# Altium footprint library ANT_SIM_LIB.PcbLib: 15 footprints
Each footprint in its own frame and in the unit in brackets; x right, y up, seen from the top. Pads: shape width x height; smd on the part's side, far side on the other; paste and mask are expansions set on the pad; w line width, h text height; cw(c..) or ccw(c..) is an arc to the next point about the centre after c.
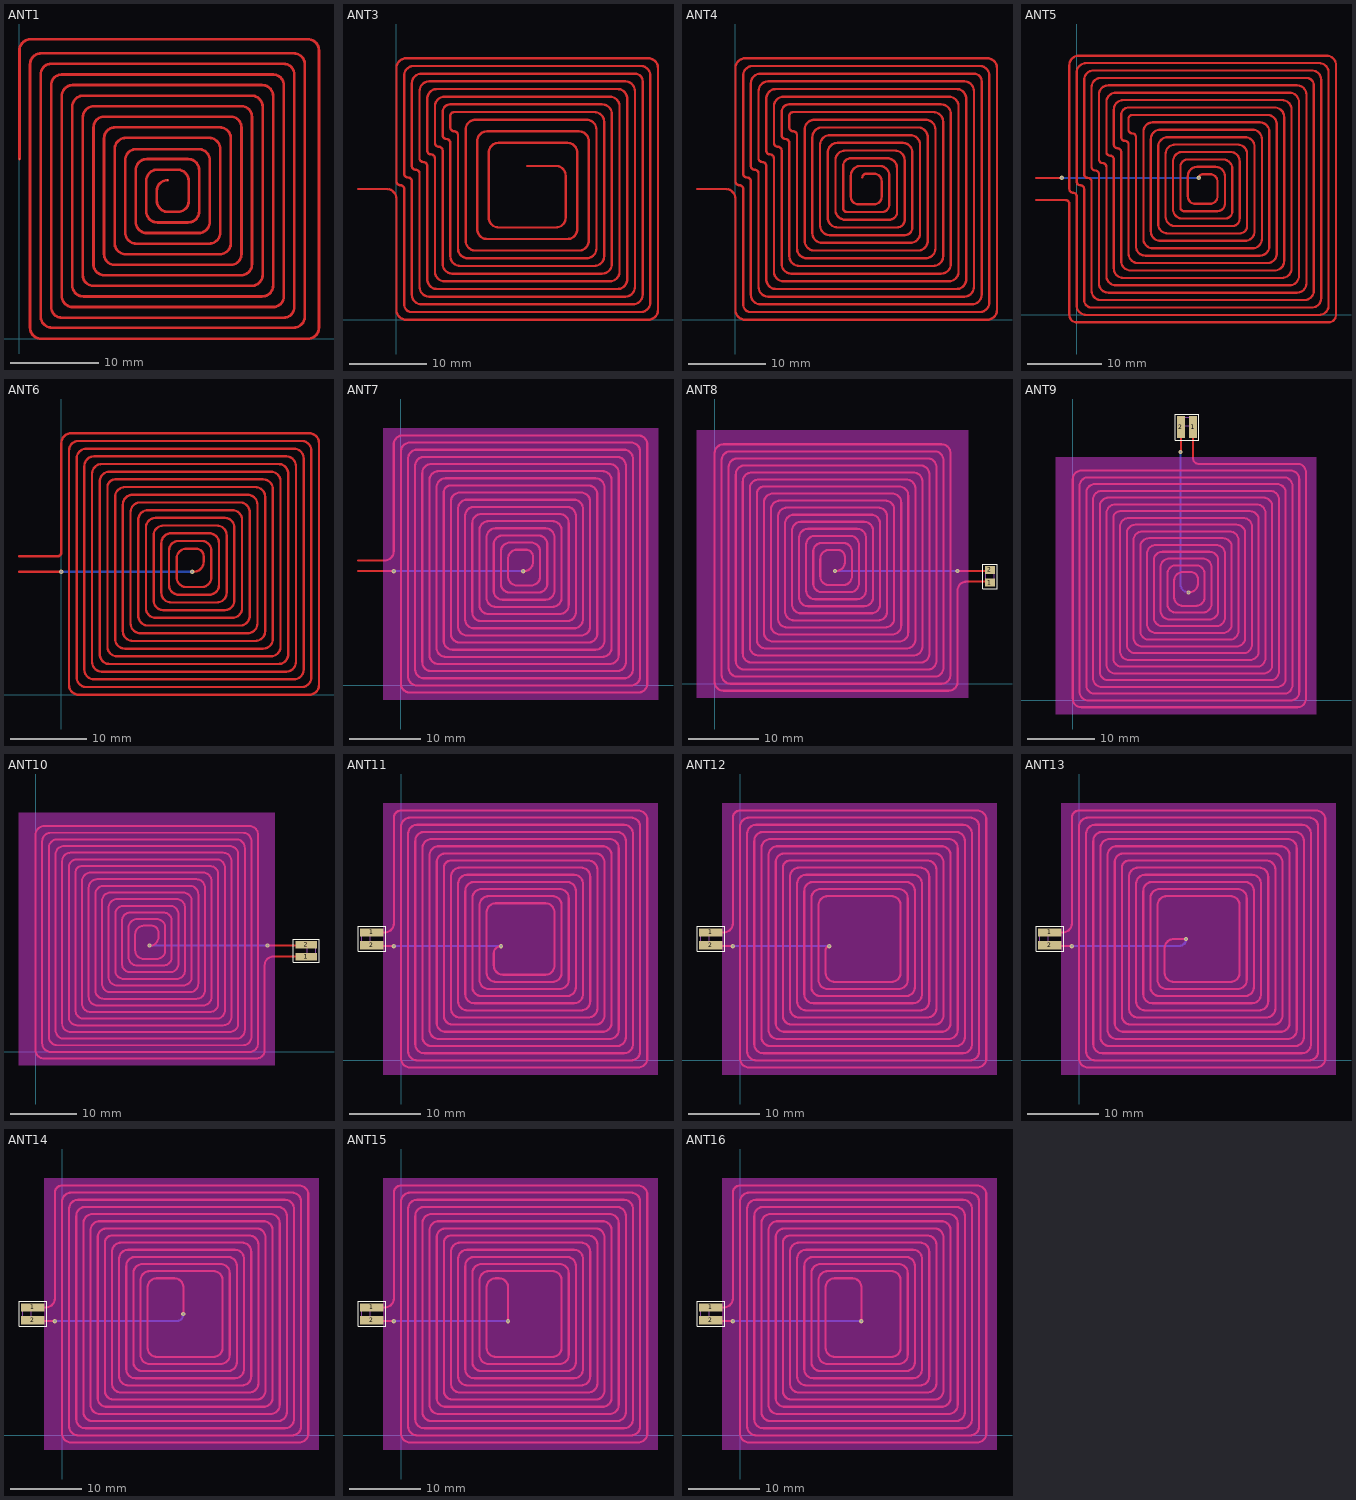
[diagram p0: the footprints below, top view; thin cyan lines are the x and y axes]

## ANT1 [mm] "13.56 MHz, 28.5pF, no external capacitor 34mm x 34mm, 12 turns, 0.3 trace width, 0.6 spacing"
pads (2):
  rect 0.1x0.1 smd mask+0: 1(16.8,18) 2(0,20.4)
Top Layer:
  lines w0.3: 0,20.4 0,32.73 cw(c1.27,32.73) 1.27,34 32.73,34 cw(c32.73,32.73) 34,32.73 34,1.27 cw(c32.73,1.27) 32.73,0 2.47,0 cw(c2.47,1.27) 1.2,1.27 1.2,31.13 cw(c2.47,31.13) 2.47,32.4 31.13,32.4 cw(c31.13,31.13) 32.4,31.13 32.4,2.54 cw(c31.13,2.54) 31.13,1.27 3.67,1.27 cw(c3.67,2.54) 2.4,2.54 2.4,30 cw(c3.6,30) 3.6,31.2 30,31.2 cw(c30,30) 31.2,30 31.2,3.6 cw(c30,3.6) 30,2.4 4.8,2.4 cw(c4.8,3.6) 3.6,3.6 3.6,28.8 cw(c4.8,28.8) 4.8,30 28.8,30 cw(c28.8,28.8) 30,28.8 30,4.8 cw(c28.8,4.8) 28.8,3.6 6.07,3.6 cw(c6.07,4.87) 4.8,4.87 4.8,27.53 cw(c6.07,27.53) 6.07,28.8 27.53,28.8 cw(c27.53,27.53) 28.8,27.53 28.8,6.07 cw(c27.53,6.07) 27.53,4.8 7.27,4.8 cw(c7.27,6.07) 6,6.07 6,26.33 cw(c7.27,26.33) 7.27,27.6 26.33,27.6 cw(c26.33,26.33) 27.6,26.33 27.6,7.27 cw(c26.33,7.27) 26.33,6 8.4,6 cw(c8.4,7.2) 7.2,7.2 7.2,25.13 cw(c8.47,25.13) 8.47,26.4 25.2,26.4 cw(c25.2,25.2) 26.4,25.2 26.4,8.47 cw(c25.13,8.47) 25.13,7.2 9.67,7.2 cw(c9.67,8.47) 8.4,8.47 8.4,24 cw(c9.6,24) 9.6,25.2 24,25.2 cw(c24,24) 25.2,24 25.2,9.6 cw(c24,9.6) 24,8.4 10.8,8.4 cw(c10.8,9.6) 9.6,9.6 9.6,22.73 cw(c10.87,22.73) 10.87,24 22.73,24 cw(c22.73,22.73) 24,22.73 24,10.87 cw(c22.73,10.87) 22.73,9.6 12.07,9.6 cw(c12.07,10.87) 10.8,10.87 10.8,21.53 cw(c12.07,21.53) 12.07,22.8 21.53,22.8 cw(c21.53,21.53) 22.8,21.53 22.8,12.07 cw(c21.53,12.07) 21.53,10.8 13.27,10.8 cw(c13.27,12.07) 12,12.07 12,20.26 cw(c13.27,20.26) 13.27,21.53 20.33,21.53 cw(c20.33,20.26) 21.6,20.26 21.6,13.27 cw(c20.33,13.27) 20.33,12 14.47,12 cw(c14.47,13.27) 13.2,13.27 13.2,19.13 cw(c14.47,19.13) 14.47,20.4 19.13,20.4 cw(c19.13,19.13) 20.4,19.13 20.4,14.47 cw(c19.13,14.47) 19.13,13.2 15.67,13.2 cw(c15.67,14.47) 14.4,14.47 14.4,17.93 cw(c15.67,17.93) 15.67,19.2 17.93,19.2 cw(c17.93,17.93) 19.2,17.93 19.2,15.6 cw(c18,15.6) 18,14.4 16.87,14.4 cw(c16.87,15.67) 15.6,15.67 15.6,16.8 cw(c16.8,16.8) 16.8,18

## ANT3 [mm] "13.56 MHz, 28.5pF, with external capacitor 34mm x 34mm, 12 turns, 0.3 trace width, 0.6 spacing"
Top Layer:
  lines w0.3: -5,17 -1.27,17 cw(c-1.27,15.73) 0,15.73 0,1.27 ccw(c1.27,1.27) 1.27,0 32.73,0 ccw(c32.73,1.27) 34,1.27 34,32.73 ccw(c32.73,32.73) 32.73,34 1.27,34 ccw(c1.27,32.73) 0,32.73 0,18 ccw(c0.5,18) 0.5,17.5 cw(c0.5,17) 1,17 1,2 ccw(c2,2) 2,1 31.73,1 ccw(c31.73,2.27) 33,2.27 33,31.73 ccw(c31.73,31.73) 31.73,33 2.27,33 ccw(c2.27,31.73) 1,31.73 1,19 ccw(c1.5,19) 1.5,18.5 cw(c1.5,18) 2,18 2,3.27 ccw(c3.27,3.27) 3.27,2 30.73,2 ccw(c30.73,3.27) 32,3.27 32,31 ccw(c31,31) 31,32 3.27,32 ccw(c3.27,30.73) 2,30.73 2,20 ccw(c2.5,20) 2.5,19.5 cw(c2.5,19) 3,19 3,4.27 ccw(c4.27,4.27) 4.27,3 29.73,3 ccw(c29.73,4.27) 31,4.27 31,29.73 ccw(c29.73,29.73) 29.73,31 4.27,31 ccw(c4.27,29.73) 3,29.73 3,21 ccw(c3.5,21) 3.5,20.5 cw(c3.5,20) 4,20 4,5.27 ccw(c5.27,5.27) 5.27,4 28.73,4 ccw(c28.73,5.27) 30,5.27 30,28.73 ccw(c28.73,28.73) 28.73,30 5.27,30 ccw(c5.27,28.73) 4,28.73 4,22 ccw(c4.5,22) 4.5,21.5 ; 17,20 20.73,20 cw(c20.73,18.73) 22,18.73 22,13.27 cw(c20.73,13.27) 20.73,12 13.27,12 cw(c13.27,13.27) 12,13.27 12,21.73 cw(c13.27,21.73) 13.27,23 22.23,23 cw(c22.23,21.73) 23.5,21.73 23.5,11.77 cw(c22.23,11.77) 22.23,10.5 11.77,10.5 cw(c11.77,11.77) 10.5,11.77 10.5,23.23 cw(c11.77,23.23) 11.77,24.5 23.73,24.5 cw(c23.73,23.23) 25,23.23 25,10.27 cw(c23.73,10.27) 23.73,9 10.27,9 cw(c10.27,10.27) 9,10.27 9,24.73 cw(c10.27,24.73) 10.27,26 24.73,26 cw(c24.73,24.73) 26,24.73 26,9.27 cw(c24.73,9.27) 24.73,8 9.27,8 cw(c9.27,9.27) 8,9.27 8,24 ccw(c7.5,24) 7.5,24.5 cw(c7.5,25) 7,25 7,25.5 7,26.5 cw(c7.5,26.5) 7.5,27 25.73,27 cw(c25.73,25.73) 27,25.73 27,8.27 cw(c25.73,8.27) 25.73,7 8.27,7 cw(c8.27,8.27) 7,8.27 7,23 ccw(c6.5,23) 6.5,23.5 cw(c6.5,24) 6,24 6,27 cw(c7,27) 7,28 26.73,28 cw(c26.73,26.73) 28,26.73 28,7.27 cw(c26.73,7.27) 26.73,6 7.27,6 cw(c7.27,7.27) 6,7.27 6,21.5 6,22 ccw(c5.5,22) 5.5,22.5 cw(c5.5,23) 5,23 5,27.73 cw(c6.27,27.73) 6.27,29 27.73,29 cw(c27.73,27.73) 29,27.73 29,6.27 cw(c27.73,6.27) 27.73,5 6.27,5 cw(c6.27,6.27) 5,6.27 5,21 ccw(c4.5,21) 4.5,21.5 ; 4.5,21.5 4.5,21.5

## ANT4 [mm] "13.56 MHz, 28.5pF, with external capacitor 34mm x 34mm, 12 turns, 0.3 trace width, 0.6 spacing"
Top Layer:
  lines w0.3: -5,17 -1.27,17 cw(c-1.27,15.73) 0,15.73 0,1.27 ccw(c1.27,1.27) 1.27,0 32.73,0 ccw(c32.73,1.27) 34,1.27 34,32.73 ccw(c32.73,32.73) 32.73,34 1.27,34 ccw(c1.27,32.73) 0,32.73 0,18 ccw(c0.5,18) 0.5,17.5 cw(c0.5,17) 1,17 1,2 ccw(c2,2) 2,1 31.73,1 ccw(c31.73,2.27) 33,2.27 33,31.73 ccw(c31.73,31.73) 31.73,33 2.27,33 ccw(c2.27,31.73) 1,31.73 1,19 ccw(c1.5,19) 1.5,18.5 cw(c1.5,18) 2,18 2,3.27 ccw(c3.27,3.27) 3.27,2 30.73,2 ccw(c30.73,3.27) 32,3.27 32,31 ccw(c31,31) 31,32 3.27,32 ccw(c3.27,30.73) 2,30.73 2,20 ccw(c2.5,20) 2.5,19.5 cw(c2.5,19) 3,19 3,4.27 ccw(c4.27,4.27) 4.27,3 29.73,3 ccw(c29.73,4.27) 31,4.27 31,29.73 ccw(c29.73,29.73) 29.73,31 4.27,31 ccw(c4.27,29.73) 3,29.73 3,21 ccw(c3.5,21) 3.5,20.5 cw(c3.5,20) 4,20 4,5.27 ccw(c5.27,5.27) 5.27,4 28.73,4 ccw(c28.73,5.27) 30,5.27 30,28.73 ccw(c28.73,28.73) 28.73,30 5.27,30 ccw(c5.27,28.73) 4,28.73 4,22 ccw(c4.5,22) 4.5,21.5 ; 16.5,18.5 cw(c17,18.5) 17,19 18,19 cw(c18,18) 19,18 19,17.73 19,16 cw(c18,16) 18,15 16,15 cw(c16,16) 15,16 15,18.73 cw(c16.27,18.73) 16.27,20 18.73,20 cw(c18.73,18.73) 20,18.73 20,15 cw(c19,15) 19,14 14.5,14 cw(c14.5,14.5) 14,14.5 14,20 cw(c15,20) 15,21 19.73,21 cw(c19.73,19.73) 21,19.73 21,14 cw(c20,14) 20,13 14.27,13 cw(c14.27,14.27) 13,14.27 13,20.73 cw(c14.27,20.73) 14.27,22 20.73,22 cw(c20.73,20.73) 22,20.73 22,13 cw(c21,13) 21,12 13.27,12 cw(c13.27,13.27) 12,13.27 12,21.73 cw(c13.27,21.73) 13.27,23 21.73,23 cw(c21.73,21.73) 23,21.73 23,12 cw(c22,12) 22,11 12.27,11 cw(c12.27,12.27) 11,12.27 11,22.73 cw(c12.27,22.73) 12.27,24 22.73,24 cw(c22.73,22.73) 24,22.73 24,11.27 cw(c22.73,11.27) 22.73,10 11.27,10 cw(c11.27,11.27) 10,11.27 10,23.73 cw(c11.27,23.73) 11.27,25 23.73,25 cw(c23.73,23.73) 25,23.73 25,23.23 25,10.27 cw(c23.73,10.27) 23.73,9 10.27,9 cw(c10.27,10.27) 9,10.27 9,24.73 cw(c10.27,24.73) 10.27,26 24.73,26 cw(c24.73,24.73) 26,24.73 26,9.27 cw(c24.73,9.27) 24.73,8 9.27,8 cw(c9.27,9.27) 8,9.27 8,24 ccw(c7.5,24) 7.5,24.5 cw(c7.5,25) 7,25 7,25.5 7,26.5 cw(c7.5,26.5) 7.5,27 25.73,27 cw(c25.73,25.73) 27,25.73 27,8.27 cw(c25.73,8.27) 25.73,7 8.27,7 cw(c8.27,8.27) 7,8.27 7,23 ccw(c6.5,23) 6.5,23.5 cw(c6.5,24) 6,24 6,27 cw(c7,27) 7,28 26.73,28 cw(c26.73,26.73) 28,26.73 28,7.27 cw(c26.73,7.27) 26.73,6 7.27,6 cw(c7.27,7.27) 6,7.27 6,21.5 6,22 ccw(c5.5,22) 5.5,22.5 cw(c5.5,23) 5,23 5,27.73 cw(c6.27,27.73) 6.27,29 27.73,29 cw(c27.73,27.73) 29,27.73 29,6.27 cw(c27.73,6.27) 27.73,5 6.27,5 cw(c6.27,6.27) 5,6.27 5,21 ccw(c4.5,21) 4.5,21.5 ; 4.5,21.5 4.5,21.5

## ANT5 [mm] "13.56 MHz, 28.5pF, with external capacitor 34mm x 34mm, 12 turns, 0.3 trace width, 0.6 spacing"
via 16.5,18.5 diameter 0.6 hole 0.3
via -2,18.5 diameter 0.6 hole 0.3
Top Layer:
  lines w0.3: -5.5,15.5 -1.5,15.5 cw(c-1.5,15) -1,15 -1,0 ccw(c0,0) 0,-1 34,-1 ccw(c34,0) 35,0 35,33.73 ccw(c33.73,33.73) 33.73,35 0.27,35 ccw(c0.27,33.73) -1,33.73 -1,17 ccw(c-0.5,17) -0.5,16.5 ; -5.5,18.5 -2,18.5 ; 16.5,18.5 cw(c17,18.5) 17,19 18,19 cw(c18,18) 19,18 19,17.73 19,16 cw(c18,16) 18,15 16,15 cw(c16,16) 15,16 15,18.73 cw(c16.27,18.73) 16.27,20 18.73,20 cw(c18.73,18.73) 20,18.73 20,15 cw(c19,15) 19,14 14.5,14 cw(c14.5,14.5) 14,14.5 14,20 cw(c15,20) 15,21 19.73,21 cw(c19.73,19.73) 21,19.73 21,14 cw(c20,14) 20,13 14.27,13 cw(c14.27,14.27) 13,14.27 13,20.73 cw(c14.27,20.73) 14.27,22 20.73,22 cw(c20.73,20.73) 22,20.73 22,13 cw(c21,13) 21,12 13.27,12 cw(c13.27,13.27) 12,13.27 12,21.73 cw(c13.27,21.73) 13.27,23 21.73,23 cw(c21.73,21.73) 23,21.73 23,12 cw(c22,12) 22,11 12.27,11 cw(c12.27,12.27) 11,12.27 11,22.73 cw(c12.27,22.73) 12.27,24 22.73,24 cw(c22.73,22.73) 24,22.73 24,11.27 cw(c22.73,11.27) 22.73,10 11.27,10 cw(c11.27,11.27) 10,11.27 10,23.73 cw(c11.27,23.73) 11.27,25 23.73,25 cw(c23.73,23.73) 25,23.73 25,23.23 25,10.27 cw(c23.73,10.27) 23.73,9 10.27,9 cw(c10.27,10.27) 9,10.27 9,24.73 cw(c10.27,24.73) 10.27,26 24.73,26 cw(c24.73,24.73) 26,24.73 26,9.27 cw(c24.73,9.27) 24.73,8 9.27,8 cw(c9.27,9.27) 8,9.27 8,24 ccw(c7.5,24) 7.5,24.5 cw(c7.5,25) 7,25 7,25.5 7,26.5 cw(c7.5,26.5) 7.5,27 25.73,27 cw(c25.73,25.73) 27,25.73 27,8.27 cw(c25.73,8.27) 25.73,7 8.27,7 cw(c8.27,8.27) 7,8.27 7,23 ccw(c6.5,23) 6.5,23.5 cw(c6.5,24) 6,24 6,27 cw(c7,27) 7,28 26.73,28 cw(c26.73,26.73) 28,26.73 28,7.27 cw(c26.73,7.27) 26.73,6 7.27,6 cw(c7.27,7.27) 6,7.27 6,21.5 6,22 ccw(c5.5,22) 5.5,22.5 cw(c5.5,23) 5,23 5,27.73 cw(c6.27,27.73) 6.27,29 27.73,29 cw(c27.73,27.73) 29,27.73 29,6.27 cw(c27.73,6.27) 27.73,5 6.27,5 cw(c6.27,6.27) 5,6.27 5,21 ccw(c4.5,21) 4.5,21.5 ; -0.5,16.5 cw(c-0.5,16) 0,16 0,15.73 0,1.27 ccw(c1.27,1.27) 1.27,0 32.73,0 ccw(c32.73,1.27) 34,1.27 34,32.73 ccw(c32.73,32.73) 32.73,34 1.27,34 ccw(c1.27,32.73) 0,32.73 0,18 ccw(c0.5,18) 0.5,17.5 cw(c0.5,17) 1,17 1,2 ccw(c2,2) 2,1 31.73,1 ccw(c31.73,2.27) 33,2.27 33,31.73 ccw(c31.73,31.73) 31.73,33 2.27,33 ccw(c2.27,31.73) 1,31.73 1,19 ccw(c1.5,19) 1.5,18.5 cw(c1.5,18) 2,18 2,3.27 ccw(c3.27,3.27) 3.27,2 30.73,2 ccw(c30.73,3.27) 32,3.27 32,31 ccw(c31,31) 31,32 3.27,32 ccw(c3.27,30.73) 2,30.73 2,20 ccw(c2.5,20) 2.5,19.5 cw(c2.5,19) 3,19 3,4.27 ccw(c4.27,4.27) 4.27,3 29.73,3 ccw(c29.73,4.27) 31,4.27 31,29.73 ccw(c29.73,29.73) 29.73,31 4.27,31 ccw(c4.27,29.73) 3,29.73 3,21 ccw(c3.5,21) 3.5,20.5 cw(c3.5,20) 4,20 4,5.27 ccw(c5.27,5.27) 5.27,4 28.73,4 ccw(c28.73,5.27) 30,5.27 30,28.73 ccw(c28.73,28.73) 28.73,30 5.27,30 ccw(c5.27,28.73) 4,28.73 4,22 ccw(c4.5,22) 4.5,21.5 ; -0.5,16.5 -0.5,16.5 ; 4.5,21.5 4.5,21.5
Bottom Layer:
  lines w0.3: -2,18.5 16.5,18.5

## ANT6 [mm] "13.56 MHz, 28.5pF, with external capacitor 34mm x 34mm, 12 turns, 0.3 trace width, 0.6 spacing"
via 0,16 diameter 0.6 hole 0.3
via 17,16 diameter 0.6 hole 0.3
Top Layer:
  lines w0.3: -5.5,16 0,16 ; -5.5,18 -0.5,18 ccw(c-0.5,18.5) 0,18.5 0,32.73 cw(c1.27,32.73) 1.27,34 32.23,34 cw(c32.23,32.73) 33.5,32.73 33.5,1.27 cw(c32.23,1.27) 32.23,0 2.27,0 cw(c2.27,1.27) 1,1.27 1,31.73 cw(c2.27,31.73) 2.27,33 31.23,33 cw(c31.23,31.73) 32.5,31.73 32.5,2.27 cw(c31.23,2.27) 31.23,1 3.27,1 cw(c3.27,2.27) 2,2.27 2,30.73 cw(c3.27,30.73) 3.27,32 30.23,32 cw(c30.23,30.73) 31.5,30.73 31.5,3.27 cw(c30.23,3.27) 30.23,2 4.27,2 cw(c4.27,3.27) 3,3.27 3,29.73 cw(c4.27,29.73) 4.27,31 29.23,31 cw(c29.23,29.73) 30.5,29.73 30.5,4.27 cw(c29.23,4.27) 29.23,3 5.27,3 cw(c5.27,4.27) 4,4.27 4,28.73 cw(c5.27,28.73) 5.27,30 28.23,30 cw(c28.23,28.73) 29.5,28.73 29.5,5.27 cw(c28.23,5.27) 28.23,4 6.27,4 cw(c6.27,5.27) 5,5.27 5,27.73 cw(c6.27,27.73) 6.27,29 27.23,29 cw(c27.23,27.73) 28.5,27.73 28.5,6.27 cw(c27.23,6.27) 27.23,5 7.27,5 cw(c7.27,6.27) 6,6.27 6,27 cw(c7,27) 7,28 26.23,28 cw(c26.23,26.73) 27.5,26.73 27.5,7.27 cw(c26.23,7.27) 26.23,6 8.27,6 cw(c8.27,7.27) 7,7.27 7,25.73 cw(c8.27,25.73) 8.27,27 25.23,27 cw(c25.23,25.73) 26.5,25.73 26.5,8.27 cw(c25.23,8.27) 25.23,7 9.27,7 cw(c9.27,8.27) 8,8.27 8,24.73 cw(c9.27,24.73) 9.27,26 24.23,26 cw(c24.23,24.73) 25.5,24.73 25.5,9.27 cw(c24.23,9.27) 24.23,8 10.27,8 cw(c10.27,9.27) 9,9.27 9,23.73 cw(c10.27,23.73) 10.27,25 23.23,25 cw(c23.23,23.73) 24.5,23.73 24.5,10.27 cw(c23.23,10.27) 23.23,9 11.27,9 cw(c11.27,10.27) 10,10.27 10,22.73 cw(c11.27,22.73) 11.27,24 22.23,24 cw(c22.23,22.73) 23.5,22.73 23.5,11.27 cw(c22.23,11.27) 22.23,10 12.27,10 cw(c12.27,11.27) 11,11.27 11,21.73 cw(c12.27,21.73) 12.27,23 21.23,23 cw(c21.23,21.73) 22.5,21.73 22.5,12.27 cw(c21.23,12.27) 21.23,11 13.27,11 cw(c13.27,12.27) 12,12.27 12,20.73 cw(c13.27,20.73) 13.27,22 20.23,22 cw(c20.23,20.73) 21.5,20.73 21.5,13.27 cw(c20.23,13.27) 20.23,12 14.27,12 cw(c14.27,13.27) 13,13.27 13,19.73 cw(c14.27,19.73) 14.27,21 19.23,21 cw(c19.23,19.73) 20.5,19.73 20.5,14.27 cw(c19.23,14.27) 19.23,13 15.27,13 cw(c15.27,14.27) 14,14.27 14,18.73 cw(c15.27,18.73) 15.27,20 18.23,20 cw(c18.23,18.73) 19.5,18.73 19.5,15.27 cw(c18.23,15.27) 18.23,14 16.27,14 cw(c16.27,15.27) 15,15.27 15,17.73 cw(c16.27,17.73) 16.27,19 17.5,19 cw(c17.5,18) 18.5,18 18.5,17.27 cw(c17.23,17.27) 17.23,16 17,16
Bottom Layer:
  lines w0.3: 0,16 17,16

## ANT7 [mm] "13.56 MHz, 28.5pF, with external capacitor 34mm x 34mm, 12 turns, 0.3 trace width, 0.6 spacing"
via 17.115,16 diameter 0.6 hole 0.3
via -1,16 diameter 0.6 hole 0.3
Top Layer:
  lines w0.3: -6,16 -1,16 ; -6,17.5 -2.27,17.5 ccw(c-2.27,18.77) -1,18.77 -1,33.73 cw(c0.27,33.73) 0.27,35 33.23,35 cw(c33.23,33.73) 34.5,33.73 34.5,0.27 cw(c33.23,0.27) 33.23,-1 1.27,-1 cw(c1.27,0.27) 0,0.27 0,18.5 0,32.73 cw(c1.27,32.73) 1.27,34 32.23,34 cw(c32.23,32.73) 33.5,32.73 33.5,1.27 cw(c32.23,1.27) 32.23,0 2.27,0 cw(c2.27,1.27) 1,1.27 1,31.73 cw(c2.27,31.73) 2.27,33 31.23,33 cw(c31.23,31.73) 32.5,31.73 32.5,2.27 cw(c31.23,2.27) 31.23,1 3.27,1 cw(c3.27,2.27) 2,2.27 2,30.73 cw(c3.27,30.73) 3.27,32 30.23,32 cw(c30.23,30.73) 31.5,30.73 31.5,3.27 cw(c30.23,3.27) 30.23,2 4.27,2 cw(c4.27,3.27) 3,3.27 3,29.73 cw(c4.27,29.73) 4.27,31 29.23,31 cw(c29.23,29.73) 30.5,29.73 30.5,4.27 cw(c29.23,4.27) 29.23,3 5.27,3 cw(c5.27,4.27) 4,4.27 4,28.73 cw(c5.27,28.73) 5.27,30 28.23,30 cw(c28.23,28.73) 29.5,28.73 29.5,5.27 cw(c28.23,5.27) 28.23,4 6.27,4 cw(c6.27,5.27) 5,5.27 5,27.73 cw(c6.27,27.73) 6.27,29 27.23,29 cw(c27.23,27.73) 28.5,27.73 28.5,6.27 cw(c27.23,6.27) 27.23,5 7.27,5 cw(c7.27,6.27) 6,6.27 6,27 cw(c7,27) 7,28 26.23,28 cw(c26.23,26.73) 27.5,26.73 27.5,7.27 cw(c26.23,7.27) 26.23,6 8.27,6 cw(c8.27,7.27) 7,7.27 7,25.73 cw(c8.27,25.73) 8.27,27 25.23,27 cw(c25.23,25.73) 26.5,25.73 26.5,8.27 cw(c25.23,8.27) 25.23,7 9.27,7 cw(c9.27,8.27) 8,8.27 8,24.73 cw(c9.27,24.73) 9.27,26 24.23,26 cw(c24.23,24.73) 25.5,24.73 25.5,9.27 cw(c24.23,9.27) 24.23,8 10.27,8 cw(c10.27,9.27) 9,9.27 9,23.73 cw(c10.27,23.73) 10.27,25 23.23,25 cw(c23.23,23.73) 24.5,23.73 24.5,10.27 cw(c23.23,10.27) 23.23,9 11.27,9 cw(c11.27,10.27) 10,10.27 10,22.73 cw(c11.27,22.73) 11.27,24 22.23,24 cw(c22.23,22.73) 23.5,22.73 23.5,11.27 cw(c22.23,11.27) 22.23,10 12.27,10 cw(c12.27,11.27) 11,11.27 11,21.73 cw(c12.27,21.73) 12.27,23 21.23,23 cw(c21.23,21.73) 22.5,21.73 22.5,12.27 cw(c21.23,12.27) 21.23,11 13.27,11 cw(c13.27,12.27) 12,12.27 12,20.73 cw(c13.27,20.73) 13.27,22 20.23,22 cw(c20.23,20.73) 21.5,20.73 21.5,13.27 cw(c20.23,13.27) 20.23,12 14.27,12 cw(c14.27,13.27) 13,13.27 13,19.73 cw(c14.27,19.73) 14.27,21 19.23,21 cw(c19.23,19.73) 20.5,19.73 20.5,14.27 cw(c19.23,14.27) 19.23,13 15.27,13 cw(c15.27,14.27) 14,14.27 14,18.73 cw(c15.27,18.73) 15.27,20 18.23,20 cw(c18.23,18.73) 19.5,18.73 19.5,15.27 cw(c18.23,15.27) 18.23,14 16.27,14 cw(c16.27,15.27) 15,15.27 15,17.73 cw(c16.27,17.73) 16.27,19 17.5,19 cw(c17.5,18) 18.5,18 18.5,17.27 cw(c17.23,17.27) 17.23,16 17,16
Bottom Layer:
  lines w0.3: -1,16 17.115,16
Keep-Out Layer:
  region: -2.5,36 36,36 36,-2 -2.5,-2

## ANT8 [mm] "13.56 MHz, 28.5pF, with external capacitor 34mm x 34mm, 12 turns, 0.3 trace width, 0.6 spacing"
pads (2):
  rect 1.45x1.15 smd mask+0.05: 1(39.1,14.35) 2(39.1,16.15)
via 34.5,16 diameter 0.6 hole 0.3
via 17.115,16 diameter 0.6 hole 0.3
Top Layer:
  lines w0.3: 17,16 17.23,16 ccw(c17.23,17.27) 18.5,17.27 18.5,18 ccw(c17.5,18) 17.5,19 16.27,19 ccw(c16.27,17.73) 15,17.73 15,15.27 ccw(c16.27,15.27) 16.27,14 18.23,14 ccw(c18.23,15.27) 19.5,15.27 19.5,18.73 ccw(c18.23,18.73) 18.23,20 15.27,20 ccw(c15.27,18.73) 14,18.73 14,14.27 ccw(c15.27,14.27) 15.27,13 19.23,13 ccw(c19.23,14.27) 20.5,14.27 20.5,19.73 ccw(c19.23,19.73) 19.23,21 14.27,21 ccw(c14.27,19.73) 13,19.73 13,13.27 ccw(c14.27,13.27) 14.27,12 20.23,12 ccw(c20.23,13.27) 21.5,13.27 21.5,20.73 ccw(c20.23,20.73) 20.23,22 13.27,22 ccw(c13.27,20.73) 12,20.73 12,12.27 ccw(c13.27,12.27) 13.27,11 21.23,11 ccw(c21.23,12.27) 22.5,12.27 22.5,21.73 ccw(c21.23,21.73) 21.23,23 12.27,23 ccw(c12.27,21.73) 11,21.73 11,11.27 ccw(c12.27,11.27) 12.27,10 22.23,10 ccw(c22.23,11.27) 23.5,11.27 23.5,22.73 ccw(c22.23,22.73) 22.23,24 11.27,24 ccw(c11.27,22.73) 10,22.73 10,10.27 ccw(c11.27,10.27) 11.27,9 23.23,9 ccw(c23.23,10.27) 24.5,10.27 24.5,23.73 ccw(c23.23,23.73) 23.23,25 10.27,25 ccw(c10.27,23.73) 9,23.73 9,9.27 ccw(c10.27,9.27) 10.27,8 24.23,8 ccw(c24.23,9.27) 25.5,9.27 25.5,24.73 ccw(c24.23,24.73) 24.23,26 9.27,26 ccw(c9.27,24.73) 8,24.73 8,8.27 ccw(c9.27,8.27) 9.27,7 25.23,7 ccw(c25.23,8.27) 26.5,8.27 26.5,25.73 ccw(c25.23,25.73) 25.23,27 8.27,27 ccw(c8.27,25.73) 7,25.73 7,7.27 ccw(c8.27,7.27) 8.27,6 26.23,6 ccw(c26.23,7.27) 27.5,7.27 27.5,26.73 ccw(c26.23,26.73) 26.23,28 7,28 ccw(c7,27) 6,27 6,6.27 ccw(c7.27,6.27) 7.27,5 27.23,5 ccw(c27.23,6.27) 28.5,6.27 28.5,27.73 ccw(c27.23,27.73) 27.23,29 6.27,29 ccw(c6.27,27.73) 5,27.73 5,5.27 ccw(c6.27,5.27) 6.27,4 28.23,4 ccw(c28.23,5.27) 29.5,5.27 29.5,28.73 ccw(c28.23,28.73) 28.23,30 5.27,30 ccw(c5.27,28.73) 4,28.73 4,4.27 ccw(c5.27,4.27) 5.27,3 29.23,3 ccw(c29.23,4.27) 30.5,4.27 30.5,29.73 ccw(c29.23,29.73) 29.23,31 4.27,31 ccw(c4.27,29.73) 3,29.73 3,3.27 ccw(c4.27,3.27) 4.27,2 30.23,2 ccw(c30.23,3.27) 31.5,3.27 31.5,30.73 ccw(c30.23,30.73) 30.23,32 3.27,32 ccw(c3.27,30.73) 2,30.73 2,2.27 ccw(c3.27,2.27) 3.27,1 31.23,1 ccw(c31.23,2.27) 32.5,2.27 32.5,31.73 ccw(c31.23,31.73) 31.23,33 2.27,33 ccw(c2.27,31.73) 1,31.73 1,1.27 ccw(c2.27,1.27) 2.27,0 32.23,0 ccw(c32.23,1.27) 33.5,1.27 33.5,32.73 ccw(c32.23,32.73) 32.23,34 1.27,34 ccw(c1.27,32.73) 0,32.73 0,18.5 0,0.27 ccw(c1.27,0.27) 1.27,-1 33.23,-1 ccw(c33.23,0.27) 34.5,0.27 34.5,12.5 34.5,13.23 cw(c35.77,13.23) 35.77,14.5 39.5,14.5 ; 34.5,16 39.5,16
Bottom Layer:
  lines w0.3: 17.115,16 34.5,16
Top Overlay:
  lines w0.1: 38.1,13.5 40.1,13.5 40.1,17 38.1,17 38.1,13.5
Keep-Out Layer:
  region: -2.5,36 36,36 36,-2 -2.5,-2
Mechanical 15:
  lines w0.1: 38.475,14.25 38.475,16.25 39.725,16.25 39.725,14.25 38.475,14.25
3D body "C0805.step": height 0.61, standoff -0.01, extent 38.465,14.24 39.735,16.26

## ANT9 [mm] "13.56 MHz, 28.5pF, with external capacitor 34mm x 34mm, 12 turns, 0.3 trace width, 0.6 spacing"
pads (2):
  rect 1.15x3.3 smd mask+0.05: 1(17.8,40.45) 2(16,40.45)
via 17.115,16 diameter 0.6 hole 0.3
via 15.95,36.75 diameter 0.6 hole 0.3
Top Layer:
  lines w0.3: 16,36.8 16,40.45 ; 17,16 17.23,16 ccw(c17.23,17.27) 18.5,17.27 18.5,18 ccw(c17.5,18) 17.5,19 16.27,19 ccw(c16.27,17.73) 15,17.73 15,15.27 ccw(c16.27,15.27) 16.27,14 18.23,14 ccw(c18.23,15.27) 19.5,15.27 19.5,18.73 ccw(c18.23,18.73) 18.23,20 15.27,20 ccw(c15.27,18.73) 14,18.73 14,14.27 ccw(c15.27,14.27) 15.27,13 19.23,13 ccw(c19.23,14.27) 20.5,14.27 20.5,19.73 ccw(c19.23,19.73) 19.23,21 14.27,21 ccw(c14.27,19.73) 13,19.73 13,13.27 ccw(c14.27,13.27) 14.27,12 20.23,12 ccw(c20.23,13.27) 21.5,13.27 21.5,20.73 ccw(c20.23,20.73) 20.23,22 13.27,22 ccw(c13.27,20.73) 12,20.73 12,12.27 ccw(c13.27,12.27) 13.27,11 21.23,11 ccw(c21.23,12.27) 22.5,12.27 22.5,21.73 ccw(c21.23,21.73) 21.23,23 12.27,23 ccw(c12.27,21.73) 11,21.73 11,11.27 ccw(c12.27,11.27) 12.27,10 22.23,10 ccw(c22.23,11.27) 23.5,11.27 23.5,22.73 ccw(c22.23,22.73) 22.23,24 11.27,24 ccw(c11.27,22.73) 10,22.73 10,10.27 ccw(c11.27,10.27) 11.27,9 23.23,9 ccw(c23.23,10.27) 24.5,10.27 24.5,23.73 ccw(c23.23,23.73) 23.23,25 10.27,25 ccw(c10.27,23.73) 9,23.73 9,9.27 ccw(c10.27,9.27) 10.27,8 24.23,8 ccw(c24.23,9.27) 25.5,9.27 25.5,24.73 ccw(c24.23,24.73) 24.23,26 9.27,26 ccw(c9.27,24.73) 8,24.73 8,8.27 ccw(c9.27,8.27) 9.27,7 25.23,7 ccw(c25.23,8.27) 26.5,8.27 26.5,25.73 ccw(c25.23,25.73) 25.23,27 8.27,27 ccw(c8.27,25.73) 7,25.73 7,7.27 ccw(c8.27,7.27) 8.27,6 26.23,6 ccw(c26.23,7.27) 27.5,7.27 27.5,26.73 ccw(c26.23,26.73) 26.23,28 7,28 ccw(c7,27) 6,27 6,6.27 ccw(c7.27,6.27) 7.27,5 27.23,5 ccw(c27.23,6.27) 28.5,6.27 28.5,27.73 ccw(c27.23,27.73) 27.23,29 6.27,29 ccw(c6.27,27.73) 5,27.73 5,5.27 ccw(c6.27,5.27) 6.27,4 28.23,4 ccw(c28.23,5.27) 29.5,5.27 29.5,28.73 ccw(c28.23,28.73) 28.23,30 5.27,30 ccw(c5.27,28.73) 4,28.73 4,4.27 ccw(c5.27,4.27) 5.27,3 29.23,3 ccw(c29.23,4.27) 30.5,4.27 30.5,29.73 ccw(c29.23,29.73) 29.23,31 4.27,31 ccw(c4.27,29.73) 3,29.73 3,3.27 ccw(c4.27,3.27) 4.27,2 30.23,2 ccw(c30.23,3.27) 31.5,3.27 31.5,30.73 ccw(c30.23,30.73) 30.23,32 3.27,32 ccw(c3.27,30.73) 2,30.73 2,2.27 ccw(c3.27,2.27) 3.27,1 31.23,1 ccw(c31.23,2.27) 32.5,2.27 32.5,31.73 ccw(c31.23,31.73) 31.23,33 2.27,33 ccw(c2.27,31.73) 1,31.73 1,1.27 ccw(c2.27,1.27) 2.27,0 32.23,0 ccw(c32.23,1.27) 33.5,1.27 33.5,32.73 ccw(c32.23,32.73) 32.23,34 1.27,34 ccw(c1.27,32.73) 0,32.73 0,18.5 0,0.27 ccw(c1.27,0.27) 1.27,-1 33.23,-1 ccw(c33.23,0.27) 34.5,0.27 34.5,33.73 ccw(c33.23,33.73) 33.23,35 18.625,35 cw(c18.625,35.825) 17.8,35.825 17.8,40.45
Bottom Layer:
  lines w0.3: 16,36.8 cw(c15.95,36.8) 15.95,36.75 15.95,17.165 ccw(c17.115,17.165) 17.115,16
Top Overlay:
  lines w0.1: 15.15,38.5 15.15,42.375 18.65,42.375 18.65,38.5 15.15,38.5
Keep-Out Layer:
  region: -2.5,36 36,36 36,-2 -2.5,-2
Mechanical 15:
  lines w0.1: 15.9,40.55 15.9,41.8 ; 15.9,40.625 17.9,40.625 ; 15.9,41.875 17.9,41.875 ; 17.9,40.55 17.9,41.8
3D body "C0805.step": height 0.61, standoff -0.01, extent 15.818,39.06 17.838,40.33
3D body "C0805.step": height 0.61, standoff -0.01, extent 15.89,40.615 17.91,41.885

## ANT10 [mm] "13.56 MHz, 28.5pF, with external capacitor 34mm x 34mm, 12 turns, 0.3 trace width, 0.6 spacing"
pads (2):
  rect 3.3x1.15 smd mask+0.05: 1(40.75,14.35) 2(40.75,16.15)
via 34.95,16 diameter 0.6 hole 0.3
via 17.115,16 diameter 0.6 hole 0.3
Top Layer:
  lines w0.3: 17,16 17.23,16 ccw(c17.23,17.27) 18.5,17.27 18.5,18 ccw(c17.5,18) 17.5,19 16.27,19 ccw(c16.27,17.73) 15,17.73 15,15.27 ccw(c16.27,15.27) 16.27,14 18.23,14 ccw(c18.23,15.27) 19.5,15.27 19.5,18.73 ccw(c18.23,18.73) 18.23,20 15.27,20 ccw(c15.27,18.73) 14,18.73 14,14.27 ccw(c15.27,14.27) 15.27,13 19.23,13 ccw(c19.23,14.27) 20.5,14.27 20.5,19.73 ccw(c19.23,19.73) 19.23,21 14.27,21 ccw(c14.27,19.73) 13,19.73 13,13.27 ccw(c14.27,13.27) 14.27,12 20.23,12 ccw(c20.23,13.27) 21.5,13.27 21.5,20.73 ccw(c20.23,20.73) 20.23,22 13.27,22 ccw(c13.27,20.73) 12,20.73 12,12.27 ccw(c13.27,12.27) 13.27,11 21.23,11 ccw(c21.23,12.27) 22.5,12.27 22.5,21.73 ccw(c21.23,21.73) 21.23,23 12.27,23 ccw(c12.27,21.73) 11,21.73 11,11.27 ccw(c12.27,11.27) 12.27,10 22.23,10 ccw(c22.23,11.27) 23.5,11.27 23.5,22.73 ccw(c22.23,22.73) 22.23,24 11.27,24 ccw(c11.27,22.73) 10,22.73 10,10.27 ccw(c11.27,10.27) 11.27,9 23.23,9 ccw(c23.23,10.27) 24.5,10.27 24.5,23.73 ccw(c23.23,23.73) 23.23,25 10.27,25 ccw(c10.27,23.73) 9,23.73 9,9.27 ccw(c10.27,9.27) 10.27,8 24.23,8 ccw(c24.23,9.27) 25.5,9.27 25.5,24.73 ccw(c24.23,24.73) 24.23,26 9.27,26 ccw(c9.27,24.73) 8,24.73 8,8.27 ccw(c9.27,8.27) 9.27,7 25.23,7 ccw(c25.23,8.27) 26.5,8.27 26.5,25.73 ccw(c25.23,25.73) 25.23,27 8.27,27 ccw(c8.27,25.73) 7,25.73 7,7.27 ccw(c8.27,7.27) 8.27,6 26.23,6 ccw(c26.23,7.27) 27.5,7.27 27.5,26.73 ccw(c26.23,26.73) 26.23,28 7,28 ccw(c7,27) 6,27 6,6.27 ccw(c7.27,6.27) 7.27,5 27.23,5 ccw(c27.23,6.27) 28.5,6.27 28.5,27.73 ccw(c27.23,27.73) 27.23,29 6.27,29 ccw(c6.27,27.73) 5,27.73 5,5.27 ccw(c6.27,5.27) 6.27,4 28.23,4 ccw(c28.23,5.27) 29.5,5.27 29.5,28.73 ccw(c28.23,28.73) 28.23,30 5.27,30 ccw(c5.27,28.73) 4,28.73 4,4.27 ccw(c5.27,4.27) 5.27,3 29.23,3 ccw(c29.23,4.27) 30.5,4.27 30.5,29.73 ccw(c29.23,29.73) 29.23,31 4.27,31 ccw(c4.27,29.73) 3,29.73 3,3.27 ccw(c4.27,3.27) 4.27,2 30.23,2 ccw(c30.23,3.27) 31.5,3.27 31.5,30.73 ccw(c30.23,30.73) 30.23,32 3.27,32 ccw(c3.27,30.73) 2,30.73 2,2.27 ccw(c3.27,2.27) 3.27,1 31.23,1 ccw(c31.23,2.27) 32.5,2.27 32.5,31.73 ccw(c31.23,31.73) 31.23,33 2.27,33 ccw(c2.27,31.73) 1,31.73 1,1.27 ccw(c2.27,1.27) 2.27,0 32.23,0 ccw(c32.23,1.27) 33.5,1.27 33.5,32.73 ccw(c32.23,32.73) 32.23,34 1.27,34 ccw(c1.27,32.73) 0,32.73 0,18.5 0,0.27 ccw(c1.27,0.27) 1.27,-1 33.23,-1 ccw(c33.23,0.27) 34.5,0.27 34.5,13.08 cw(c35.77,13.08) 35.77,14.35 40.75,14.35 ; 34.95,16 40.6,16 ccw(c40.6,16.15) 40.75,16.15
Bottom Layer:
  lines w0.3: 17.115,16 34.95,16
Top Overlay:
  lines w0.1: 38.8,13.5 42.675,13.5 42.675,17 38.8,17 38.8,13.5
Keep-Out Layer:
  region: -2.5,36 36,36 36,-2 -2.5,-2
Mechanical 15:
  lines w0.1: 40.85,14.25 42.1,14.25 ; 40.85,16.25 42.1,16.25 ; 40.925,14.25 40.925,16.25 ; 42.175,14.25 42.175,16.25
3D body "C0805.step": height 0.61, standoff -0.01, extent 39.36,14.312 40.63,16.332
3D body "C0805.step": height 0.61, standoff -0.01, extent 40.915,14.24 42.185,16.26

## ANT11 [mm] "13.56 MHz, 28.5pF, with external capacitor 34mm x 34mm, 12 turns, 0.3 trace width, 0.6 spacing"
pads (2):
  rect 3.3x1.15 smd mask+0.05: 1(-4.1,17.925) 2(-4.1,16.125)
via -1,16 diameter 0.6 hole 0.3
via 14,16 diameter 0.6 hole 0.3
Top Layer:
  lines w0.3: -4.1,16.125 cw(c-3.95,16.125) -3.95,16.275 ; -4.1,17.925 -2.27,17.925 ccw(c-2.27,19.195) -1,19.195 -1,34 cw(c0,34) 0,35 33.23,35 cw(c33.23,33.73) 34.5,33.73 34.5,13.08 34.5,0.27 cw(c33.23,0.27) 33.23,-1 1.27,-1 cw(c1.27,0.27) 0,0.27 0,18.5 0,32.73 cw(c1.27,32.73) 1.27,34 32.23,34 cw(c32.23,32.73) 33.5,32.73 33.5,1.27 cw(c32.23,1.27) 32.23,0 2.27,0 cw(c2.27,1.27) 1,1.27 1,31.73 cw(c2.27,31.73) 2.27,33 31.23,33 cw(c31.23,31.73) 32.5,31.73 32.5,2.27 cw(c31.23,2.27) 31.23,1 3.27,1 cw(c3.27,2.27) 2,2.27 2,30.73 cw(c3.27,30.73) 3.27,32 30.23,32 cw(c30.23,30.73) 31.5,30.73 31.5,3.27 cw(c30.23,3.27) 30.23,2 4.27,2 cw(c4.27,3.27) 3,3.27 3,29.73 cw(c4.27,29.73) 4.27,31 29.23,31 cw(c29.23,29.73) 30.5,29.73 30.5,4.27 cw(c29.23,4.27) 29.23,3 5.27,3 cw(c5.27,4.27) 4,4.27 4,28.73 cw(c5.27,28.73) 5.27,30 28.23,30 cw(c28.23,28.73) 29.5,28.73 29.5,5.27 cw(c28.23,5.27) 28.23,4 6.27,4 cw(c6.27,5.27) 5,5.27 5,27.73 cw(c6.27,27.73) 6.27,29 27.23,29 cw(c27.23,27.73) 28.5,27.73 28.5,6.27 cw(c27.23,6.27) 27.23,5 7.27,5 cw(c7.27,6.27) 6,6.27 6,27 cw(c7,27) 7,28 26.23,28 cw(c26.23,26.73) 27.5,26.73 27.5,7.27 cw(c26.23,7.27) 26.23,6 8.27,6 cw(c8.27,7.27) 7,7.27 7,25.73 cw(c8.27,25.73) 8.27,27 25.23,27 cw(c25.23,25.73) 26.5,25.73 26.5,8.27 cw(c25.23,8.27) 25.23,7 9.27,7 cw(c9.27,8.27) 8,8.27 8,24.73 cw(c9.27,24.73) 9.27,26 24.23,26 cw(c24.23,24.73) 25.5,24.73 25.5,9.27 cw(c24.23,9.27) 24.23,8 10.27,8 cw(c10.27,9.27) 9,9.27 9,23.73 cw(c10.27,23.73) 10.27,25 23.23,25 cw(c23.23,23.73) 24.5,23.73 24.5,10.27 cw(c23.23,10.27) 23.23,9 11.27,9 cw(c11.27,10.27) 10,10.27 10,22.73 cw(c11.27,22.73) 11.27,24 22.23,24 cw(c22.23,22.73) 23.5,22.73 23.5,11.27 cw(c22.23,11.27) 22.23,10 12.27,10 cw(c12.27,11.27) 11,11.27 11,21.73 cw(c12.27,21.73) 12.27,23 21.23,23 cw(c21.23,21.73) 22.5,21.73 22.5,12.27 cw(c21.23,12.27) 21.23,11 13.27,11 cw(c13.27,12.27) 12,12.27 12,20.73 cw(c13.27,20.73) 13.27,22 20.23,22 cw(c20.23,20.73) 21.5,20.73 21.5,13.27 cw(c20.23,13.27) 20.23,12 14.27,12 cw(c14.27,13.27) 13,13.27 13,15 cw(c14,15) 14,16 ; -3.95,16.125 ccw(c-3.825,16.125) -3.825,16 -1,16
Bottom Layer:
  lines w0.3: -1,16 14,16
Top Overlay:
  lines w0.1: -6.025,15.275 -6.025,18.775 -2.15,18.775 -2.15,15.275 -6.025,15.275
Keep-Out Layer:
  region: -2.5,36 36,36 36,-2 -2.5,-2
Mechanical 15:
  lines w0.1: -5.525,16.025 -5.525,18.025 ; -5.45,16.025 -4.2,16.025 ; -5.45,18.025 -4.2,18.025 ; -4.275,16.025 -4.275,18.025
3D body "C0805.step": height 0.61, standoff -0.01, extent -5.535,16.015 -4.265,18.035
3D body "C0805.step": height 0.61, standoff -0.01, extent -3.98,15.943 -2.71,17.963

## ANT12 [mm] "13.56 MHz, 28.5pF, with external capacitor 34mm x 34mm, 12 turns, 0.3 trace width, 0.6 spacing"
pads (2):
  rect 3.3x1.15 smd mask+0.05: 1(-4.1,17.925) 2(-4.1,16.125)
via 12.5,16 diameter 0.6 hole 0.3
via -1,16 diameter 0.6 hole 0.3
Top Layer:
  lines w0.3: -4.1,16.125 cw(c-3.95,16.125) -3.95,16.275 ; -4.1,17.925 -2.27,17.925 ccw(c-2.27,19.195) -1,19.195 -1,34 cw(c0,34) 0,35 33.23,35 cw(c33.23,33.73) 34.5,33.73 34.5,13.08 34.5,0.27 cw(c33.23,0.27) 33.23,-1 1.27,-1 cw(c1.27,0.27) 0,0.27 0,18.5 0,32.73 cw(c1.27,32.73) 1.27,34 32.23,34 cw(c32.23,32.73) 33.5,32.73 33.5,1.27 cw(c32.23,1.27) 32.23,0 2.27,0 cw(c2.27,1.27) 1,1.27 1,31.73 cw(c2.27,31.73) 2.27,33 31.23,33 cw(c31.23,31.73) 32.5,31.73 32.5,2.27 cw(c31.23,2.27) 31.23,1 3.27,1 cw(c3.27,2.27) 2,2.27 2,30.73 cw(c3.27,30.73) 3.27,32 30.23,32 cw(c30.23,30.73) 31.5,30.73 31.5,3.27 cw(c30.23,3.27) 30.23,2 4.27,2 cw(c4.27,3.27) 3,3.27 3,29.73 cw(c4.27,29.73) 4.27,31 29.23,31 cw(c29.23,29.73) 30.5,29.73 30.5,4.27 cw(c29.23,4.27) 29.23,3 5.27,3 cw(c5.27,4.27) 4,4.27 4,28.73 cw(c5.27,28.73) 5.27,30 28.23,30 cw(c28.23,28.73) 29.5,28.73 29.5,5.27 cw(c28.23,5.27) 28.23,4 6.27,4 cw(c6.27,5.27) 5,5.27 5,27.73 cw(c6.27,27.73) 6.27,29 27.23,29 cw(c27.23,27.73) 28.5,27.73 28.5,6.27 cw(c27.23,6.27) 27.23,5 7.27,5 cw(c7.27,6.27) 6,6.27 6,27 cw(c7,27) 7,28 26.23,28 cw(c26.23,26.73) 27.5,26.73 27.5,7.27 cw(c26.23,7.27) 26.23,6 8.27,6 cw(c8.27,7.27) 7,7.27 7,25.73 cw(c8.27,25.73) 8.27,27 25.23,27 cw(c25.23,25.73) 26.5,25.73 26.5,8.27 cw(c25.23,8.27) 25.23,7 9.27,7 cw(c9.27,8.27) 8,8.27 8,24.73 cw(c9.27,24.73) 9.27,26 24.23,26 cw(c24.23,24.73) 25.5,24.73 25.5,9.27 cw(c24.23,9.27) 24.23,8 10.27,8 cw(c10.27,9.27) 9,9.27 9,23.73 cw(c10.27,23.73) 10.27,25 23.23,25 cw(c23.23,23.73) 24.5,23.73 24.5,10.27 cw(c23.23,10.27) 23.23,9 11.27,9 cw(c11.27,10.27) 10,10.27 10,22.73 cw(c11.27,22.73) 11.27,24 22.23,24 cw(c22.23,22.73) 23.5,22.73 23.5,11.27 cw(c22.23,11.27) 22.23,10 12.27,10 cw(c12.27,11.27) 11,11.27 11,21.73 cw(c12.27,21.73) 12.27,23 21.23,23 cw(c21.23,21.73) 22.5,21.73 22.5,12.27 cw(c21.23,12.27) 21.23,11 13.27,11 cw(c13.27,12.27) 12,12.27 12,15.5 cw(c12.5,15.5) 12.5,16 ; -3.95,16.125 ccw(c-3.825,16.125) -3.825,16 -1,16
Bottom Layer:
  lines w0.3: -1,16 12.5,16
Top Overlay:
  lines w0.1: -6.025,15.275 -6.025,18.775 -2.15,18.775 -2.15,15.275 -6.025,15.275
Keep-Out Layer:
  region: -2.5,36 36,36 36,-2 -2.5,-2
Mechanical 15:
  lines w0.1: -5.525,16.025 -5.525,18.025 ; -5.45,16.025 -4.2,16.025 ; -5.45,18.025 -4.2,18.025 ; -4.275,16.025 -4.275,18.025
3D body "C0805.step": height 0.61, standoff -0.01, extent -5.535,16.015 -4.265,18.035
3D body "C0805.step": height 0.61, standoff -0.01, extent -3.98,15.943 -2.71,17.963

## ANT13 [mm] "13.56 MHz, 28.5pF, with external capacitor 34mm x 34mm, 12 turns, 0.3 trace width, 0.6 spacing"
pads (2):
  rect 3.3x1.15 smd mask+0.05: 1(-4.1,17.925) 2(-4.1,16.125)
via -1,16 diameter 0.6 hole 0.3
via 15,17 diameter 0.6 hole 0.3
Top Layer:
  lines w0.3: -4.1,16.125 cw(c-3.95,16.125) -3.95,16.275 ; -4.1,17.925 -2.27,17.925 ccw(c-2.27,19.195) -1,19.195 -1,34 cw(c0,34) 0,35 33.23,35 cw(c33.23,33.73) 34.5,33.73 34.5,13.08 34.5,0.27 cw(c33.23,0.27) 33.23,-1 1.27,-1 cw(c1.27,0.27) 0,0.27 0,18.5 0,32.73 cw(c1.27,32.73) 1.27,34 32.23,34 cw(c32.23,32.73) 33.5,32.73 33.5,1.27 cw(c32.23,1.27) 32.23,0 2.27,0 cw(c2.27,1.27) 1,1.27 1,31.73 cw(c2.27,31.73) 2.27,33 31.23,33 cw(c31.23,31.73) 32.5,31.73 32.5,2.27 cw(c31.23,2.27) 31.23,1 3.27,1 cw(c3.27,2.27) 2,2.27 2,30.73 cw(c3.27,30.73) 3.27,32 30.23,32 cw(c30.23,30.73) 31.5,30.73 31.5,3.27 cw(c30.23,3.27) 30.23,2 4.27,2 cw(c4.27,3.27) 3,3.27 3,29.73 cw(c4.27,29.73) 4.27,31 29.23,31 cw(c29.23,29.73) 30.5,29.73 30.5,4.27 cw(c29.23,4.27) 29.23,3 5.27,3 cw(c5.27,4.27) 4,4.27 4,28.73 cw(c5.27,28.73) 5.27,30 28.23,30 cw(c28.23,28.73) 29.5,28.73 29.5,5.27 cw(c28.23,5.27) 28.23,4 6.27,4 cw(c6.27,5.27) 5,5.27 5,27.73 cw(c6.27,27.73) 6.27,29 27.23,29 cw(c27.23,27.73) 28.5,27.73 28.5,6.27 cw(c27.23,6.27) 27.23,5 7.27,5 cw(c7.27,6.27) 6,6.27 6,27 cw(c7,27) 7,28 26.23,28 cw(c26.23,26.73) 27.5,26.73 27.5,7.27 cw(c26.23,7.27) 26.23,6 8.27,6 cw(c8.27,7.27) 7,7.27 7,25.73 cw(c8.27,25.73) 8.27,27 25.23,27 cw(c25.23,25.73) 26.5,25.73 26.5,8.27 cw(c25.23,8.27) 25.23,7 9.27,7 cw(c9.27,8.27) 8,8.27 8,24.73 cw(c9.27,24.73) 9.27,26 24.23,26 cw(c24.23,24.73) 25.5,24.73 25.5,9.27 cw(c24.23,9.27) 24.23,8 10.27,8 cw(c10.27,9.27) 9,9.27 9,23.73 cw(c10.27,23.73) 10.27,25 23.23,25 cw(c23.23,23.73) 24.5,23.73 24.5,10.27 cw(c23.23,10.27) 23.23,9 11.27,9 cw(c11.27,10.27) 10,10.27 10,22.73 cw(c11.27,22.73) 11.27,24 22.23,24 cw(c22.23,22.73) 23.5,22.73 23.5,11.27 cw(c22.23,11.27) 22.23,10 12.27,10 cw(c12.27,11.27) 11,11.27 11,21.73 cw(c12.27,21.73) 12.27,23 21.23,23 cw(c21.23,21.73) 22.5,21.73 22.5,12.27 cw(c21.23,12.27) 21.23,11 13.27,11 cw(c13.27,12.27) 12,12.27 12,15.5 12,15.73 cw(c13.27,15.73) 13.27,17 15,17 ; -3.95,16.125 ccw(c-3.825,16.125) -3.825,16 -1,16
Bottom Layer:
  lines w0.3: -1,16 14,16 ccw(c14,17) 15,17
Top Overlay:
  lines w0.1: -6.025,15.275 -2.15,15.275 -2.15,18.775 -6.025,18.775 -6.025,15.275
Keep-Out Layer:
  region: -2.5,36 36,36 36,-2 -2.5,-2
Mechanical 15:
  lines w0.1: -5.525,16.025 -5.525,18.025 ; -5.45,16.025 -4.2,16.025 ; -5.45,18.025 -4.2,18.025 ; -4.275,16.025 -4.275,18.025
3D body "C0805.step": height 0.61, standoff -0.01, extent -3.98,15.943 -2.71,17.963
3D body "C0805.step": height 0.61, standoff -0.01, extent -5.535,16.015 -4.265,18.035

## ANT14 [mm] "13.56 MHz, 28.5pF, with external capacitor 34mm x 34mm, 12 turns, 0.3 trace width, 0.6 spacing"
pads (2):
  rect 3.3x1.15 smd mask+0.05: 1(-4.1,17.925) 2(-4.1,16.125)
via 17,17 diameter 0.6 hole 0.3
via -1,16 diameter 0.6 hole 0.3
Top Layer:
  lines w0.3: -4.1,16.125 cw(c-3.95,16.125) -3.95,16.275 ; -4.1,17.925 -2.27,17.925 ccw(c-2.27,19.195) -1,19.195 -1,34 cw(c0,34) 0,35 33.23,35 cw(c33.23,33.73) 34.5,33.73 34.5,13.08 34.5,0.27 cw(c33.23,0.27) 33.23,-1 1.27,-1 cw(c1.27,0.27) 0,0.27 0,18.5 0,32.73 cw(c1.27,32.73) 1.27,34 32.23,34 cw(c32.23,32.73) 33.5,32.73 33.5,1.27 cw(c32.23,1.27) 32.23,0 2.27,0 cw(c2.27,1.27) 1,1.27 1,31.73 cw(c2.27,31.73) 2.27,33 31.23,33 cw(c31.23,31.73) 32.5,31.73 32.5,2.27 cw(c31.23,2.27) 31.23,1 3.27,1 cw(c3.27,2.27) 2,2.27 2,30.73 cw(c3.27,30.73) 3.27,32 30.23,32 cw(c30.23,30.73) 31.5,30.73 31.5,3.27 cw(c30.23,3.27) 30.23,2 4.27,2 cw(c4.27,3.27) 3,3.27 3,29.73 cw(c4.27,29.73) 4.27,31 29.23,31 cw(c29.23,29.73) 30.5,29.73 30.5,4.27 cw(c29.23,4.27) 29.23,3 5.27,3 cw(c5.27,4.27) 4,4.27 4,28.73 cw(c5.27,28.73) 5.27,30 28.23,30 cw(c28.23,28.73) 29.5,28.73 29.5,5.27 cw(c28.23,5.27) 28.23,4 6.27,4 cw(c6.27,5.27) 5,5.27 5,27.73 cw(c6.27,27.73) 6.27,29 27.23,29 cw(c27.23,27.73) 28.5,27.73 28.5,6.27 cw(c27.23,6.27) 27.23,5 7.27,5 cw(c7.27,6.27) 6,6.27 6,27 cw(c7,27) 7,28 26.23,28 cw(c26.23,26.73) 27.5,26.73 27.5,7.27 cw(c26.23,7.27) 26.23,6 8.27,6 cw(c8.27,7.27) 7,7.27 7,25.73 cw(c8.27,25.73) 8.27,27 25.23,27 cw(c25.23,25.73) 26.5,25.73 26.5,8.27 cw(c25.23,8.27) 25.23,7 9.27,7 cw(c9.27,8.27) 8,8.27 8,24.73 cw(c9.27,24.73) 9.27,26 24.23,26 cw(c24.23,24.73) 25.5,24.73 25.5,9.27 cw(c24.23,9.27) 24.23,8 10.27,8 cw(c10.27,9.27) 9,9.27 9,23.73 cw(c10.27,23.73) 10.27,25 23.23,25 cw(c23.23,23.73) 24.5,23.73 24.5,10.27 cw(c23.23,10.27) 23.23,9 11.27,9 cw(c11.27,10.27) 10,10.27 10,22.73 cw(c11.27,22.73) 11.27,24 22.23,24 cw(c22.23,22.73) 23.5,22.73 23.5,11.27 cw(c22.23,11.27) 22.23,10 12.27,10 cw(c12.27,11.27) 11,11.27 11,21.73 cw(c12.27,21.73) 12.27,23 21.23,23 cw(c21.23,21.73) 22.5,21.73 22.5,12.27 cw(c21.23,12.27) 21.23,11 13.27,11 cw(c13.27,12.27) 12,12.27 12,15.5 12,15.73 12,20.73 cw(c13.27,20.73) 13.27,22 15.73,22 cw(c15.73,20.73) 17,20.73 17,17 ; -3.95,16.125 ccw(c-3.825,16.125) -3.825,16 -1,16
Bottom Layer:
  lines w0.3: -1,16 14,16 16,16 ccw(c16,17) 17,17
Top Overlay:
  lines w0.1: -6.025,15.275 -2.15,15.275 -2.15,18.775 -6.025,18.775 -6.025,15.275
Keep-Out Layer:
  region: -2.5,36 36,36 36,-2 -2.5,-2
Mechanical 15:
  lines w0.1: -5.525,16.025 -5.525,18.025 ; -5.45,16.025 -4.2,16.025 ; -5.45,18.025 -4.2,18.025 ; -4.275,16.025 -4.275,18.025
3D body "C0805.step": height 0.61, standoff -0.01, extent -3.98,15.943 -2.71,17.963
3D body "C0805.step": height 0.61, standoff -0.01, extent -5.535,16.015 -4.265,18.035

## ANT15 [mm] "13.56 MHz, 28.5pF, with external capacitor 34mm x 34mm, 12 turns, 0.3 trace width, 0.6 spacing"
pads (2):
  rect 3.3x1.15 smd mask+0.05: 1(-4.1,17.925) 2(-4.1,16.125)
via 15,16 diameter 0.6 hole 0.3
via -1,16 diameter 0.6 hole 0.3
Top Layer:
  lines w0.3: -4.1,16.125 cw(c-3.95,16.125) -3.95,16.275 ; -4.1,17.925 -2.27,17.925 ccw(c-2.27,19.195) -1,19.195 -1,34 cw(c0,34) 0,35 33.23,35 cw(c33.23,33.73) 34.5,33.73 34.5,13.08 34.5,0.27 cw(c33.23,0.27) 33.23,-1 1.27,-1 cw(c1.27,0.27) 0,0.27 0,18.5 0,32.73 cw(c1.27,32.73) 1.27,34 32.23,34 cw(c32.23,32.73) 33.5,32.73 33.5,1.27 cw(c32.23,1.27) 32.23,0 2.27,0 cw(c2.27,1.27) 1,1.27 1,31.73 cw(c2.27,31.73) 2.27,33 31.23,33 cw(c31.23,31.73) 32.5,31.73 32.5,2.27 cw(c31.23,2.27) 31.23,1 3.27,1 cw(c3.27,2.27) 2,2.27 2,30.73 cw(c3.27,30.73) 3.27,32 30.23,32 cw(c30.23,30.73) 31.5,30.73 31.5,3.27 cw(c30.23,3.27) 30.23,2 4.27,2 cw(c4.27,3.27) 3,3.27 3,29.73 cw(c4.27,29.73) 4.27,31 29.23,31 cw(c29.23,29.73) 30.5,29.73 30.5,4.27 cw(c29.23,4.27) 29.23,3 5.27,3 cw(c5.27,4.27) 4,4.27 4,28.73 cw(c5.27,28.73) 5.27,30 28.23,30 cw(c28.23,28.73) 29.5,28.73 29.5,5.27 cw(c28.23,5.27) 28.23,4 6.27,4 cw(c6.27,5.27) 5,5.27 5,27.73 cw(c6.27,27.73) 6.27,29 27.23,29 cw(c27.23,27.73) 28.5,27.73 28.5,6.27 cw(c27.23,6.27) 27.23,5 7.27,5 cw(c7.27,6.27) 6,6.27 6,27 cw(c7,27) 7,28 26.23,28 cw(c26.23,26.73) 27.5,26.73 27.5,7.27 cw(c26.23,7.27) 26.23,6 8.27,6 cw(c8.27,7.27) 7,7.27 7,25.73 cw(c8.27,25.73) 8.27,27 25.23,27 cw(c25.23,25.73) 26.5,25.73 26.5,8.27 cw(c25.23,8.27) 25.23,7 9.27,7 cw(c9.27,8.27) 8,8.27 8,24.73 cw(c9.27,24.73) 9.27,26 24.23,26 cw(c24.23,24.73) 25.5,24.73 25.5,9.27 cw(c24.23,9.27) 24.23,8 10.27,8 cw(c10.27,9.27) 9,9.27 9,23.73 cw(c10.27,23.73) 10.27,25 23.23,25 cw(c23.23,23.73) 24.5,23.73 24.5,10.27 cw(c23.23,10.27) 23.23,9 11.27,9 cw(c11.27,10.27) 10,10.27 10,22.73 cw(c11.27,22.73) 11.27,24 22.23,24 cw(c22.23,22.73) 23.5,22.73 23.5,11.27 cw(c22.23,11.27) 22.23,10 12.27,10 cw(c12.27,11.27) 11,11.27 11,21.73 cw(c12.27,21.73) 12.27,23 21.23,23 cw(c21.23,21.73) 22.5,21.73 22.5,12.27 cw(c21.23,12.27) 21.23,11 13.27,11 cw(c13.27,12.27) 12,12.27 12,15.5 12,15.73 12,20.73 cw(c13.27,20.73) 13.27,22 13.73,22 cw(c13.73,20.73) 15,20.73 15,16 ; -3.95,16.125 ccw(c-3.825,16.125) -3.825,16 -1,16
Bottom Layer:
  lines w0.3: -1,16 15,16
Top Overlay:
  lines w0.1: -6.025,15.275 -2.15,15.275 -2.15,18.775 -6.025,18.775 -6.025,15.275
Keep-Out Layer:
  region: -2.5,36 36,36 36,-2 -2.5,-2
Mechanical 15:
  lines w0.1: -5.525,16.025 -5.525,18.025 ; -5.45,16.025 -4.2,16.025 ; -5.45,18.025 -4.2,18.025 ; -4.275,16.025 -4.275,18.025
3D body "C0805.step": height 0.61, standoff -0.01, extent -3.98,15.943 -2.71,17.963
3D body "C0805.step": height 0.61, standoff -0.01, extent -5.535,16.015 -4.265,18.035

## ANT16 [mm] "13.56 MHz, 28.5pF, with external capacitor 34mm x 34mm, 12 turns, 0.3 trace width, 0.6 spacing"
pads (2):
  rect 3.3x1.15 smd mask+0.05: 1(-4.1,17.925) 2(-4.1,16.125)
via 17,16 diameter 0.6 hole 0.3
via -1,16 diameter 0.6 hole 0.3
Top Layer:
  lines w0.3: -4.1,16.125 cw(c-3.95,16.125) -3.95,16.275 ; -4.1,17.925 -2.27,17.925 ccw(c-2.27,19.195) -1,19.195 -1,34 cw(c0,34) 0,35 33.23,35 cw(c33.23,33.73) 34.5,33.73 34.5,13.08 34.5,0.27 cw(c33.23,0.27) 33.23,-1 1.27,-1 cw(c1.27,0.27) 0,0.27 0,18.5 0,32.73 cw(c1.27,32.73) 1.27,34 32.23,34 cw(c32.23,32.73) 33.5,32.73 33.5,1.27 cw(c32.23,1.27) 32.23,0 2.27,0 cw(c2.27,1.27) 1,1.27 1,31.73 cw(c2.27,31.73) 2.27,33 31.23,33 cw(c31.23,31.73) 32.5,31.73 32.5,2.27 cw(c31.23,2.27) 31.23,1 3.27,1 cw(c3.27,2.27) 2,2.27 2,30.73 cw(c3.27,30.73) 3.27,32 30.23,32 cw(c30.23,30.73) 31.5,30.73 31.5,3.27 cw(c30.23,3.27) 30.23,2 4.27,2 cw(c4.27,3.27) 3,3.27 3,29.73 cw(c4.27,29.73) 4.27,31 29.23,31 cw(c29.23,29.73) 30.5,29.73 30.5,4.27 cw(c29.23,4.27) 29.23,3 5.27,3 cw(c5.27,4.27) 4,4.27 4,28.73 cw(c5.27,28.73) 5.27,30 28.23,30 cw(c28.23,28.73) 29.5,28.73 29.5,5.27 cw(c28.23,5.27) 28.23,4 6.27,4 cw(c6.27,5.27) 5,5.27 5,27.73 cw(c6.27,27.73) 6.27,29 27.23,29 cw(c27.23,27.73) 28.5,27.73 28.5,6.27 cw(c27.23,6.27) 27.23,5 7.27,5 cw(c7.27,6.27) 6,6.27 6,27 cw(c7,27) 7,28 26.23,28 cw(c26.23,26.73) 27.5,26.73 27.5,7.27 cw(c26.23,7.27) 26.23,6 8.27,6 cw(c8.27,7.27) 7,7.27 7,25.73 cw(c8.27,25.73) 8.27,27 25.23,27 cw(c25.23,25.73) 26.5,25.73 26.5,8.27 cw(c25.23,8.27) 25.23,7 9.27,7 cw(c9.27,8.27) 8,8.27 8,24.73 cw(c9.27,24.73) 9.27,26 24.23,26 cw(c24.23,24.73) 25.5,24.73 25.5,9.27 cw(c24.23,9.27) 24.23,8 10.27,8 cw(c10.27,9.27) 9,9.27 9,23.73 cw(c10.27,23.73) 10.27,25 23.23,25 cw(c23.23,23.73) 24.5,23.73 24.5,10.27 cw(c23.23,10.27) 23.23,9 11.27,9 cw(c11.27,10.27) 10,10.27 10,22.73 cw(c11.27,22.73) 11.27,24 22.23,24 cw(c22.23,22.73) 23.5,22.73 23.5,11.27 cw(c22.23,11.27) 22.23,10 12.27,10 cw(c12.27,11.27) 11,11.27 11,21.73 cw(c12.27,21.73) 12.27,23 21.23,23 cw(c21.23,21.73) 22.5,21.73 22.5,12.27 cw(c21.23,12.27) 21.23,11 13.27,11 cw(c13.27,12.27) 12,12.27 12,15.5 12,15.73 12,20.73 cw(c13.27,20.73) 13.27,22 13.73,22 15.73,22 cw(c15.73,20.73) 17,20.73 17,16 ; -3.95,16.125 ccw(c-3.825,16.125) -3.825,16 -1,16
Bottom Layer:
  lines w0.3: -1,16 17,16
Top Overlay:
  lines w0.1: -6.025,15.275 -2.15,15.275 -2.15,18.775 -6.025,18.775 -6.025,15.275
Keep-Out Layer:
  region: -2.5,36 36,36 36,-2 -2.5,-2
Mechanical 15:
  lines w0.1: -5.525,16.025 -5.525,18.025 ; -5.45,16.025 -4.2,16.025 ; -5.45,18.025 -4.2,18.025 ; -4.275,16.025 -4.275,18.025
3D body "C0805.step": height 0.61, standoff -0.01, extent -3.98,15.943 -2.71,17.963
3D body "C0805.step": height 0.61, standoff -0.01, extent -5.535,16.015 -4.265,18.035